# Altium schematic symbol library BAT62-02W.SchLib: 1 symbol
Pins are listed as number, name and electrical type; pins without a type are passive.

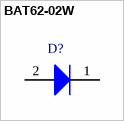
[diagram p0: symbol BAT62-02W]

## BAT62-02W
designator D?
Single Silicon Schottky Diode, 20 mA IF Max, SCD80, Green; Manufacturer: Infineon; PartNumber: BAT62-02W; CT (typ): 0.35 pF; Green: yes; Group: RF Signal Detection + Power Leveling; IF (max): 20 mA; VF (typ): 0.58 V; VR (max): 40 V; DatasheetVersion: Jun-2011; PackageReference: SCD80; PackageDescription: 2-Pin Semiconductor Diode Package, 0.8 x 1.3 mm Body; Supplier 1: Mouser; Supplier Part Number 1: N/A; Configuration: Single; Halogen-free: yes; Mounting Technology: Surface Mount; ComponentLink1Description: Manufacturer URL; ComponentLink1URL: http://www.infineon.com/; ComponentLink2Description: Datasheet; ComponentLink2URL: http://www.infineon.com/dgdl/bat62series.pdf?folderId=db3a304314dca389011518104e5d0df2&fileId=db3a304314dca3890115181141bf0df3&location=en.Products.RF.RF_Mixer___Detector_Schottky_Diodes.DATASHEET.bat62series.pdf; ComponentLink3Description: Package Specification; ComponentLink3URL: http://www.infineon.com/dgdl/SCD80-Package_Overview.pdf?folderId=db3a30431936bc4b0119526bd5c83b5c&fileId=db3a30431936bc4b0119528065a43b7a
footprint INF-SCD80_V (SCD80, 2-Leads, Body 0.8x1.3 mm)
pins: 1 K, 2 A